# Altium footprint library Connector_JST.PcbLib: 558 footprints (part 14 of 35)
Each footprint in its own frame and in the unit in brackets; x right, y up, seen from the top. Pads: shape width x height; smd on the part's side, far side on the other; paste and mask are expansions set on the pad; w line width, h text height; cw(c..) or ccw(c..) is an arc to the next point about the centre after c.
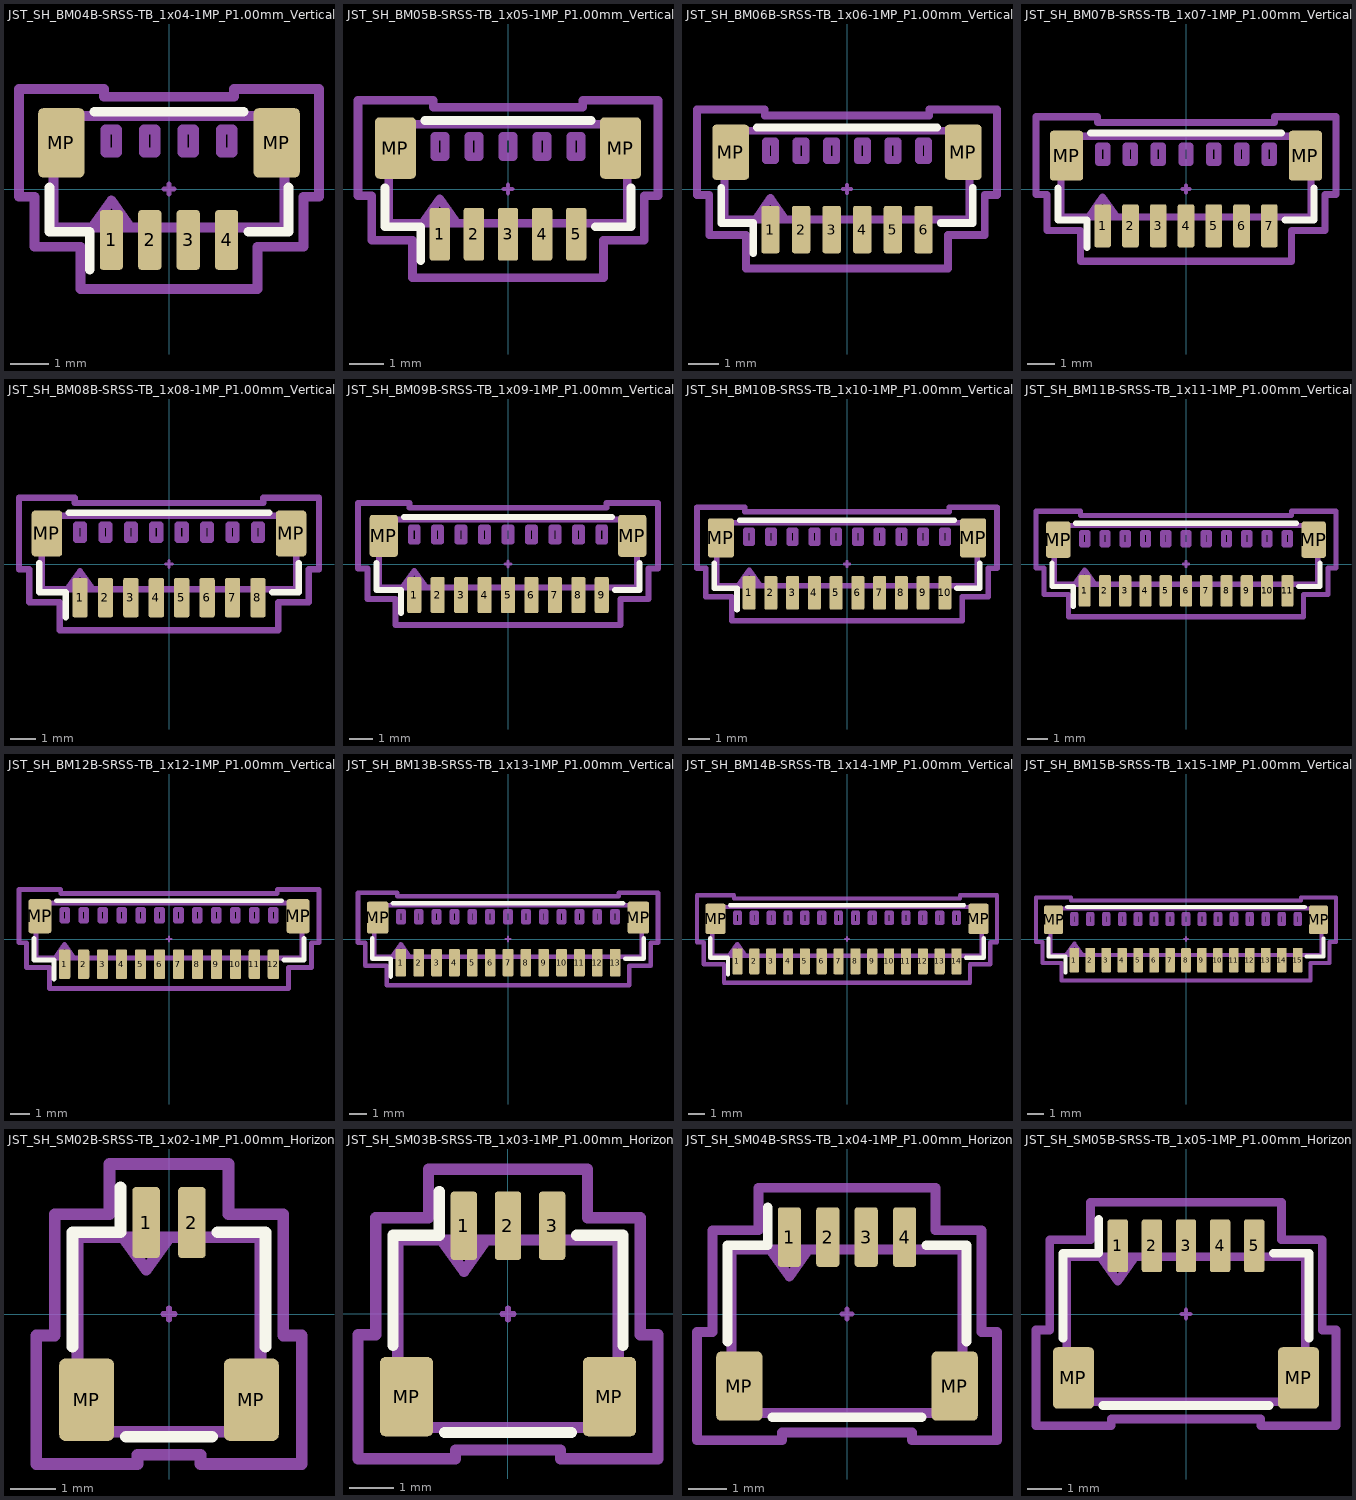
[diagram p13: the footprints below, top view; thin cyan lines are the x and y axes]

## JST_SH_BM04B-SRSS-TB_1x04-1MP_P1.00mm_Vertical [mm] "JST_SH_BM04B-SRSS-TB_1x04-1MP_P1.00mm_Vertical"
pads (6):
  rrect25% 0.6x1.55 smd: 1(-1.5,-1.325) 2(-0.5,-1.325) 3(0.5,-1.325) 4(1.5,-1.325)
  rrect21% 1.2x1.8 smd: MP(-2.8,1.2) MP(2.8,1.2)
F.SilkS:
  lines w0.254: -3.11,0.04 -3.11,-1.11 -2.06,-1.11 -2.06,-2.1 ; -1.94,2.01 1.94,2.01 ; 2.06,-1.11 3.11,-1.11 3.11,0.04
Top Component Center:
  lines w0.127: -0.127,0 0.127,0 ; 0,-0.127 0,0.127
Top Assembly:
  lines w0.254: -2,-1 -1.5,-0.293 -1,-1 ; -3,-1 -3,1.9 3,1.9 3,-1 -3,-1 ; -1.65,0.95 -1.65,1.55 -1.35,1.55 -1.35,0.95 -1.65,0.95 ; -0.65,0.95 -0.65,1.55 -0.35,1.55 -0.35,0.95 -0.65,0.95 ; 0.35,0.95 0.35,1.55 0.65,1.55 0.65,0.95 0.35,0.95 ; 1.35,0.95 1.35,1.55 1.65,1.55 1.65,0.95 1.35,0.95
Top Courtyard:
  lines w0.254: -3.9,-0.2 -3.9,2.6 -1.69,2.6 -1.69,2.4 1.69,2.4 1.69,2.6 3.9,2.6 3.9,-0.2 3.5,-0.2 3.5,-1.5 2.3,-1.5 2.3,-2.6 -2.3,-2.6 -2.3,-1.5 -3.5,-1.5 -3.5,-0.2 -3.9,-0.2
Top Designator:
  text ".Designator" at -3.43,-0.344 h1.52

## JST_SH_BM05B-SRSS-TB_1x05-1MP_P1.00mm_Vertical [mm] "JST_SH_BM05B-SRSS-TB_1x05-1MP_P1.00mm_Vertical"
pads (7):
  rrect25% 0.6x1.55 smd: 1(-2,-1.325) 2(-1,-1.325) 3(0,-1.325) 4(1,-1.325) 5(2,-1.325)
  rrect21% 1.2x1.8 smd: MP(-3.3,1.2) MP(3.3,1.2)
F.SilkS:
  lines w0.254: -3.61,0.04 -3.61,-1.11 -2.56,-1.11 -2.56,-2.1 ; -2.44,2.01 2.44,2.01 ; 2.56,-1.11 3.61,-1.11 3.61,0.04
Top Component Center:
  lines w0.127: -0.127,0 0.127,0 ; 0,-0.127 0,0.127
Top Assembly:
  lines w0.254: -2.5,-1 -2,-0.293 -1.5,-1 ; -3.5,-1 -3.5,1.9 3.5,1.9 3.5,-1 -3.5,-1 ; -2.15,0.95 -2.15,1.55 -1.85,1.55 -1.85,0.95 -2.15,0.95 ; -1.15,0.95 -1.15,1.55 -0.85,1.55 -0.85,0.95 -1.15,0.95 ; -0.15,0.95 -0.15,1.55 0.15,1.55 0.15,0.95 -0.15,0.95 ; 0.85,0.95 0.85,1.55 1.15,1.55 1.15,0.95 0.85,0.95 ; 1.85,0.95 1.85,1.55 2.15,1.55 2.15,0.95 1.85,0.95
Top Courtyard:
  lines w0.254: -4.4,-0.2 -4.4,2.6 -2.19,2.6 -2.19,2.4 2.19,2.4 2.19,2.6 4.4,2.6 4.4,-0.2 4,-0.2 4,-1.5 2.8,-1.5 2.8,-2.6 -2.8,-2.6 -2.8,-1.5 -4,-1.5 -4,-0.2 -4.4,-0.2
Top Designator:
  text ".Designator" at -3.43,-0.344 h1.52

## JST_SH_BM06B-SRSS-TB_1x06-1MP_P1.00mm_Vertical [mm] "JST_SH_BM06B-SRSS-TB_1x06-1MP_P1.00mm_Vertical"
pads (8):
  rrect25% 0.6x1.55 smd: 1(-2.5,-1.325) 2(-1.5,-1.325) 3(-0.5,-1.325) 4(0.5,-1.325) 5(1.5,-1.325) 6(2.5,-1.325)
  rrect21% 1.2x1.8 smd: MP(-3.8,1.2) MP(3.8,1.2)
F.SilkS:
  lines w0.254: -4.11,0.04 -4.11,-1.11 -3.06,-1.11 -3.06,-2.1 ; -2.94,2.01 2.94,2.01 ; 3.06,-1.11 4.11,-1.11 4.11,0.04
Top Component Center:
  lines w0.127: -0.127,0 0.127,0 ; 0,-0.127 0,0.127
Top Assembly:
  lines w0.254: -3,-1 -2.5,-0.293 -2,-1 ; -4,-1 4,-1 4,1.9 -4,1.9 -4,-1 ; -2.65,0.95 -2.35,0.95 -2.35,1.55 -2.65,1.55 -2.65,0.95 ; -1.65,0.95 -1.35,0.95 -1.35,1.55 -1.65,1.55 -1.65,0.95 ; -0.65,0.95 -0.35,0.95 -0.35,1.55 -0.65,1.55 -0.65,0.95 ; 0.35,0.95 0.65,0.95 0.65,1.55 0.35,1.55 0.35,0.95 ; 1.35,0.95 1.65,0.95 1.65,1.55 1.35,1.55 1.35,0.95 ; 2.35,0.95 2.65,0.95 2.65,1.55 2.35,1.55 2.35,0.95
Top Courtyard:
  lines w0.254: -4.9,-0.2 -4.5,-0.2 -4.5,-1.5 -3.3,-1.5 -3.3,-2.6 3.3,-2.6 3.3,-1.5 4.5,-1.5 4.5,-0.2 4.9,-0.2 4.9,2.6 2.69,2.6 2.69,2.4 -2.69,2.4 -2.69,2.6 -4.9,2.6 -4.9,-0.2
Top Designator:
  text ".Designator" at -3.43,-0.344 h1.52

## JST_SH_BM07B-SRSS-TB_1x07-1MP_P1.00mm_Vertical [mm] "JST_SH_BM07B-SRSS-TB_1x07-1MP_P1.00mm_Vertical"
pads (9):
  rrect25% 0.6x1.55 smd: 1(-3,-1.325) 2(-2,-1.325) 3(-1,-1.325) 4(0,-1.325) 5(1,-1.325) 6(2,-1.325) 7(3,-1.325)
  rrect21% 1.2x1.8 smd: MP(-4.3,1.2) MP(4.3,1.2)
F.SilkS:
  lines w0.254: -4.61,0.04 -4.61,-1.11 -3.56,-1.11 -3.56,-2.1 ; -3.44,2.01 3.44,2.01 ; 3.56,-1.11 4.61,-1.11 4.61,0.04
Top Component Center:
  lines w0.127: -0.127,0 0.127,0 ; 0,-0.127 0,0.127
Top Assembly:
  lines w0.254: -3.5,-1 -3,-0.293 -2.5,-1 ; -4.5,-1 -4.5,1.9 4.5,1.9 4.5,-1 -4.5,-1 ; -3.15,0.95 -3.15,1.55 -2.85,1.55 -2.85,0.95 -3.15,0.95 ; -2.15,0.95 -2.15,1.55 -1.85,1.55 -1.85,0.95 -2.15,0.95 ; -1.15,0.95 -1.15,1.55 -0.85,1.55 -0.85,0.95 -1.15,0.95 ; -0.15,0.95 -0.15,1.55 0.15,1.55 0.15,0.95 -0.15,0.95 ; 0.85,0.95 0.85,1.55 1.15,1.55 1.15,0.95 0.85,0.95 ; 1.85,0.95 1.85,1.55 2.15,1.55 2.15,0.95 1.85,0.95 ; 2.85,0.95 2.85,1.55 3.15,1.55 3.15,0.95 2.85,0.95
Top Courtyard:
  lines w0.254: -5.4,-0.2 -5.4,2.6 -3.19,2.6 -3.19,2.4 3.19,2.4 3.19,2.6 5.4,2.6 5.4,-0.2 5,-0.2 5,-1.5 3.8,-1.5 3.8,-2.6 -3.8,-2.6 -3.8,-1.5 -5,-1.5 -5,-0.2 -5.4,-0.2
Top Designator:
  text ".Designator" at -3.43,-0.344 h1.52

## JST_SH_BM08B-SRSS-TB_1x08-1MP_P1.00mm_Vertical [mm] "JST_SH_BM08B-SRSS-TB_1x08-1MP_P1.00mm_Vertical"
pads (10):
  rrect25% 0.6x1.55 smd: 1(-3.5,-1.325) 2(-2.5,-1.325) 3(-1.5,-1.325) 4(-0.5,-1.325) 5(0.5,-1.325) 6(1.5,-1.325) 7(2.5,-1.325) 8(3.5,-1.325)
  rrect21% 1.2x1.8 smd: MP(-4.8,1.2) MP(4.8,1.2)
F.SilkS:
  lines w0.254: -5.11,0.04 -5.11,-1.11 -4.06,-1.11 -4.06,-2.1 ; -3.94,2.01 3.94,2.01 ; 4.06,-1.11 5.11,-1.11 5.11,0.04
Top Component Center:
  lines w0.127: -0.127,0 0.127,0 ; 0,-0.127 0,0.127
Top Assembly:
  lines w0.254: -4,-1 -3.5,-0.293 -3,-1 ; -5,-1 5,-1 5,1.9 -5,1.9 -5,-1 ; -3.65,0.95 -3.35,0.95 -3.35,1.55 -3.65,1.55 -3.65,0.95 ; -2.65,0.95 -2.35,0.95 -2.35,1.55 -2.65,1.55 -2.65,0.95 ; -1.65,0.95 -1.35,0.95 -1.35,1.55 -1.65,1.55 -1.65,0.95 ; -0.65,0.95 -0.35,0.95 -0.35,1.55 -0.65,1.55 -0.65,0.95 ; 0.35,0.95 0.65,0.95 0.65,1.55 0.35,1.55 0.35,0.95 ; 1.35,0.95 1.65,0.95 1.65,1.55 1.35,1.55 1.35,0.95 ; 2.35,0.95 2.65,0.95 2.65,1.55 2.35,1.55 2.35,0.95 ; 3.35,0.95 3.65,0.95 3.65,1.55 3.35,1.55 3.35,0.95
Top Courtyard:
  lines w0.254: -5.9,-0.2 -5.5,-0.2 -5.5,-1.5 -4.3,-1.5 -4.3,-2.6 4.3,-2.6 4.3,-1.5 5.5,-1.5 5.5,-0.2 5.9,-0.2 5.9,2.6 3.7,2.6 3.7,2.4 -3.7,2.4 -3.7,2.6 -5.9,2.6 -5.9,-0.2
Top Designator:
  text ".Designator" at -3.43,-0.344 h1.52

## JST_SH_BM09B-SRSS-TB_1x09-1MP_P1.00mm_Vertical [mm] "JST_SH_BM09B-SRSS-TB_1x09-1MP_P1.00mm_Vertical"
pads (11):
  rrect25% 0.6x1.55 smd: 1(-4,-1.325) 2(-3,-1.325) 3(-2,-1.325) 4(-1,-1.325) 5(0,-1.325) 6(1,-1.325) 7(2,-1.325) 8(3,-1.325) 9(4,-1.325)
  rrect21% 1.2x1.8 smd: MP(-5.3,1.2) MP(5.3,1.2)
F.SilkS:
  lines w0.254: -5.61,0.04 -5.61,-1.11 -4.56,-1.11 -4.56,-2.1 ; -4.44,2.01 4.44,2.01 ; 4.56,-1.11 5.61,-1.11 5.61,0.04
Top Component Center:
  lines w0.127: -0.127,0 0.127,0 ; 0,-0.127 0,0.127
Top Assembly:
  lines w0.254: -4.5,-1 -4,-0.293 -3.5,-1 ; -5.5,-1 -5.5,1.9 5.5,1.9 5.5,-1 -5.5,-1 ; -4.15,0.95 -4.15,1.55 -3.85,1.55 -3.85,0.95 -4.15,0.95 ; -3.15,0.95 -3.15,1.55 -2.85,1.55 -2.85,0.95 -3.15,0.95 ; -2.15,0.95 -2.15,1.55 -1.85,1.55 -1.85,0.95 -2.15,0.95 ; -1.15,0.95 -1.15,1.55 -0.85,1.55 -0.85,0.95 -1.15,0.95 ; -0.15,0.95 -0.15,1.55 0.15,1.55 0.15,0.95 -0.15,0.95 ; 0.85,0.95 0.85,1.55 1.15,1.55 1.15,0.95 0.85,0.95 ; 1.85,0.95 1.85,1.55 2.15,1.55 2.15,0.95 1.85,0.95 ; 2.85,0.95 2.85,1.55 3.15,1.55 3.15,0.95 2.85,0.95 ; 3.85,0.95 3.85,1.55 4.15,1.55 4.15,0.95 3.85,0.95
Top Courtyard:
  lines w0.254: -6.4,-0.2 -6.4,2.6 -4.2,2.6 -4.2,2.4 4.2,2.4 4.2,2.6 6.4,2.6 6.4,-0.2 6,-0.2 6,-1.5 4.8,-1.5 4.8,-2.6 -4.8,-2.6 -4.8,-1.5 -6,-1.5 -6,-0.2 -6.4,-0.2
Top Designator:
  text ".Designator" at -3.43,-0.344 h1.52

## JST_SH_BM10B-SRSS-TB_1x10-1MP_P1.00mm_Vertical [mm] "JST_SH_BM10B-SRSS-TB_1x10-1MP_P1.00mm_Vertical"
pads (12):
  rrect25% 0.6x1.55 smd: 1(-4.5,-1.325) 2(-3.5,-1.325) 3(-2.5,-1.325) 4(-1.5,-1.325) 5(-0.5,-1.325) 6(0.5,-1.325) 7(1.5,-1.325) 8(2.5,-1.325) 9(3.5,-1.325) 10(4.5,-1.325)
  rrect21% 1.2x1.8 smd: MP(-5.8,1.2) MP(5.8,1.2)
F.SilkS:
  lines w0.254: -6.11,0.04 -6.11,-1.11 -5.06,-1.11 -5.06,-2.1 ; -4.94,2.01 4.94,2.01 ; 5.06,-1.11 6.11,-1.11 6.11,0.04
Top Component Center:
  lines w0.127: -0.127,0 0.127,0 ; 0,-0.127 0,0.127
Top Assembly:
  lines w0.254: -5,-1 -4.5,-0.293 -4,-1 ; -6,-1 -6,1.9 6,1.9 6,-1 -6,-1 ; -4.65,0.95 -4.65,1.55 -4.35,1.55 -4.35,0.95 -4.65,0.95 ; -3.65,0.95 -3.65,1.55 -3.35,1.55 -3.35,0.95 -3.65,0.95 ; -2.65,0.95 -2.65,1.55 -2.35,1.55 -2.35,0.95 -2.65,0.95 ; -1.65,0.95 -1.65,1.55 -1.35,1.55 -1.35,0.95 -1.65,0.95 ; -0.65,0.95 -0.65,1.55 -0.35,1.55 -0.35,0.95 -0.65,0.95 ; 0.35,0.95 0.35,1.55 0.65,1.55 0.65,0.95 0.35,0.95 ; 1.35,0.95 1.35,1.55 1.65,1.55 1.65,0.95 1.35,0.95 ; 2.35,0.95 2.35,1.55 2.65,1.55 2.65,0.95 2.35,0.95 ; 3.35,0.95 3.35,1.55 3.65,1.55 3.65,0.95 3.35,0.95 ; 4.35,0.95 4.35,1.55 4.65,1.55 4.65,0.95 4.35,0.95
Top Courtyard:
  lines w0.254: -6.9,-0.2 -6.9,2.6 -4.7,2.6 -4.7,2.4 4.7,2.4 4.7,2.6 6.9,2.6 6.9,-0.2 6.5,-0.2 6.5,-1.5 5.3,-1.5 5.3,-2.6 -5.3,-2.6 -5.3,-1.5 -6.5,-1.5 -6.5,-0.2 -6.9,-0.2
Top Designator:
  text ".Designator" at -3.43,-0.344 h1.52

## JST_SH_BM11B-SRSS-TB_1x11-1MP_P1.00mm_Vertical [mm] "JST_SH_BM11B-SRSS-TB_1x11-1MP_P1.00mm_Vertical"
pads (13):
  rrect25% 0.6x1.55 smd: 1(-5,-1.325) 2(-4,-1.325) 3(-3,-1.325) 4(-2,-1.325) 5(-1,-1.325) 6(0,-1.325) 7(1,-1.325) 8(2,-1.325) 9(3,-1.325) 10(4,-1.325) 11(5,-1.325)
  rrect21% 1.2x1.8 smd: MP(-6.3,1.2) MP(6.3,1.2)
F.SilkS:
  lines w0.254: -6.61,0.04 -6.61,-1.11 -5.56,-1.11 -5.56,-2.1 ; -5.44,2.01 5.44,2.01 ; 5.56,-1.11 6.61,-1.11 6.61,0.04
Top Component Center:
  lines w0.127: -0.127,0 0.127,0 ; 0,-0.127 0,0.127
Top Assembly:
  lines w0.254: -5.5,-1 -5,-0.293 -4.5,-1 ; -6.5,-1 6.5,-1 6.5,1.9 -6.5,1.9 -6.5,-1 ; -5.15,0.95 -4.85,0.95 -4.85,1.55 -5.15,1.55 -5.15,0.95 ; -4.15,0.95 -3.85,0.95 -3.85,1.55 -4.15,1.55 -4.15,0.95 ; -3.15,0.95 -2.85,0.95 -2.85,1.55 -3.15,1.55 -3.15,0.95 ; -2.15,0.95 -1.85,0.95 -1.85,1.55 -2.15,1.55 -2.15,0.95 ; -1.15,0.95 -0.85,0.95 -0.85,1.55 -1.15,1.55 -1.15,0.95 ; -0.15,0.95 0.15,0.95 0.15,1.55 -0.15,1.55 -0.15,0.95 ; 0.85,0.95 1.15,0.95 1.15,1.55 0.85,1.55 0.85,0.95 ; 1.85,0.95 2.15,0.95 2.15,1.55 1.85,1.55 1.85,0.95 ; 2.85,0.95 3.15,0.95 3.15,1.55 2.85,1.55 2.85,0.95 ; 3.85,0.95 4.15,0.95 4.15,1.55 3.85,1.55 3.85,0.95 ; 4.85,0.95 5.15,0.95 5.15,1.55 4.85,1.55 4.85,0.95
Top Courtyard:
  lines w0.254: -7.4,-0.2 -7,-0.2 -7,-1.5 -5.8,-1.5 -5.8,-2.6 5.8,-2.6 5.8,-1.5 7,-1.5 7,-0.2 7.4,-0.2 7.4,2.6 5.2,2.6 5.2,2.4 -5.2,2.4 -5.2,2.6 -7.4,2.6 -7.4,-0.2
Top Designator:
  text ".Designator" at -3.43,-0.344 h1.52

## JST_SH_BM12B-SRSS-TB_1x12-1MP_P1.00mm_Vertical [mm] "JST_SH_BM12B-SRSS-TB_1x12-1MP_P1.00mm_Vertical"
pads (14):
  rrect25% 0.6x1.55 smd: 1(-5.5,-1.325) 2(-4.5,-1.325) 3(-3.5,-1.325) 4(-2.5,-1.325) 5(-1.5,-1.325) 6(-0.5,-1.325) 7(0.5,-1.325) 8(1.5,-1.325) 9(2.5,-1.325) 10(3.5,-1.325) 11(4.5,-1.325) 12(5.5,-1.325)
  rrect21% 1.2x1.8 smd: MP(-6.8,1.2) MP(6.8,1.2)
F.SilkS:
  lines w0.254: -7.11,0.04 -7.11,-1.11 -6.06,-1.11 -6.06,-2.1 ; -5.94,2.01 5.94,2.01 ; 6.06,-1.11 7.11,-1.11 7.11,0.04
Top Component Center:
  lines w0.127: -0.127,0 0.127,0 ; 0,-0.127 0,0.127
Top Assembly:
  lines w0.254: -6,-1 -5.5,-0.293 -5,-1 ; -7,-1 -7,1.9 7,1.9 7,-1 -7,-1 ; -5.65,0.95 -5.65,1.55 -5.35,1.55 -5.35,0.95 -5.65,0.95 ; -4.65,0.95 -4.65,1.55 -4.35,1.55 -4.35,0.95 -4.65,0.95 ; -3.65,0.95 -3.65,1.55 -3.35,1.55 -3.35,0.95 -3.65,0.95 ; -2.65,0.95 -2.65,1.55 -2.35,1.55 -2.35,0.95 -2.65,0.95 ; -1.65,0.95 -1.65,1.55 -1.35,1.55 -1.35,0.95 -1.65,0.95 ; -0.65,0.95 -0.65,1.55 -0.35,1.55 -0.35,0.95 -0.65,0.95 ; 0.35,0.95 0.35,1.55 0.65,1.55 0.65,0.95 0.35,0.95 ; 1.35,0.95 1.35,1.55 1.65,1.55 1.65,0.95 1.35,0.95 ; 2.35,0.95 2.35,1.55 2.65,1.55 2.65,0.95 2.35,0.95 ; 3.35,0.95 3.35,1.55 3.65,1.55 3.65,0.95 3.35,0.95 ; 4.35,0.95 4.35,1.55 4.65,1.55 4.65,0.95 4.35,0.95 ; 5.35,0.95 5.35,1.55 5.65,1.55 5.65,0.95 5.35,0.95
Top Courtyard:
  lines w0.254: -7.9,-0.2 -7.9,2.6 -5.7,2.6 -5.7,2.4 5.7,2.4 5.7,2.6 7.9,2.6 7.9,-0.2 7.5,-0.2 7.5,-1.5 6.3,-1.5 6.3,-2.6 -6.3,-2.6 -6.3,-1.5 -7.5,-1.5 -7.5,-0.2 -7.9,-0.2
Top Designator:
  text ".Designator" at -3.43,-0.344 h1.52

## JST_SH_BM13B-SRSS-TB_1x13-1MP_P1.00mm_Vertical [mm] "JST_SH_BM13B-SRSS-TB_1x13-1MP_P1.00mm_Vertical"
pads (15):
  rrect25% 0.6x1.55 smd: 1(-6,-1.325) 2(-5,-1.325) 3(-4,-1.325) 4(-3,-1.325) 5(-2,-1.325) 6(-1,-1.325) 7(0,-1.325) 8(1,-1.325) 9(2,-1.325) 10(3,-1.325) 11(4,-1.325) 12(5,-1.325) 13(6,-1.325)
  rrect21% 1.2x1.8 smd: MP(-7.3,1.2) MP(7.3,1.2)
F.SilkS:
  lines w0.254: -7.61,0.04 -7.61,-1.11 -6.56,-1.11 -6.56,-2.1 ; -6.44,2.01 6.44,2.01 ; 6.56,-1.11 7.61,-1.11 7.61,0.04
Top Component Center:
  lines w0.127: -0.127,0 0.127,0 ; 0,-0.127 0,0.127
Top Assembly:
  lines w0.254: -6.5,-1 -6,-0.293 -5.5,-1 ; -7.5,-1 7.5,-1 7.5,1.9 -7.5,1.9 -7.5,-1 ; -6.15,0.95 -5.85,0.95 -5.85,1.55 -6.15,1.55 -6.15,0.95 ; -5.15,0.95 -4.85,0.95 -4.85,1.55 -5.15,1.55 -5.15,0.95 ; -4.15,0.95 -3.85,0.95 -3.85,1.55 -4.15,1.55 -4.15,0.95 ; -3.15,0.95 -2.85,0.95 -2.85,1.55 -3.15,1.55 -3.15,0.95 ; -2.15,0.95 -1.85,0.95 -1.85,1.55 -2.15,1.55 -2.15,0.95 ; -1.15,0.95 -0.85,0.95 -0.85,1.55 -1.15,1.55 -1.15,0.95 ; -0.15,0.95 0.15,0.95 0.15,1.55 -0.15,1.55 -0.15,0.95 ; 0.85,0.95 1.15,0.95 1.15,1.55 0.85,1.55 0.85,0.95 ; 1.85,0.95 2.15,0.95 2.15,1.55 1.85,1.55 1.85,0.95 ; 2.85,0.95 3.15,0.95 3.15,1.55 2.85,1.55 2.85,0.95 ; 3.85,0.95 4.15,0.95 4.15,1.55 3.85,1.55 3.85,0.95 ; 4.85,0.95 5.15,0.95 5.15,1.55 4.85,1.55 4.85,0.95 ; 5.85,0.95 6.15,0.95 6.15,1.55 5.85,1.55 5.85,0.95
Top Courtyard:
  lines w0.254: -8.4,-0.2 -8,-0.2 -8,-1.5 -6.8,-1.5 -6.8,-2.6 6.8,-2.6 6.8,-1.5 8,-1.5 8,-0.2 8.4,-0.2 8.4,2.6 6.2,2.6 6.2,2.4 -6.2,2.4 -6.2,2.6 -8.4,2.6 -8.4,-0.2
Top Designator:
  text ".Designator" at -3.43,-0.344 h1.52

## JST_SH_BM14B-SRSS-TB_1x14-1MP_P1.00mm_Vertical [mm] "JST_SH_BM14B-SRSS-TB_1x14-1MP_P1.00mm_Vertical"
pads (16):
  rrect25% 0.6x1.55 smd: 1(-6.5,-1.325) 2(-5.5,-1.325) 3(-4.5,-1.325) 4(-3.5,-1.325) 5(-2.5,-1.325) 6(-1.5,-1.325) 7(-0.5,-1.325) 8(0.5,-1.325) 9(1.5,-1.325) 10(2.5,-1.325) 11(3.5,-1.325) 12(4.5,-1.325) 13(5.5,-1.325) 14(6.5,-1.325)
  rrect21% 1.2x1.8 smd: MP(-7.8,1.2) MP(7.8,1.2)
F.SilkS:
  lines w0.254: -8.11,0.04 -8.11,-1.11 -7.06,-1.11 -7.06,-2.1 ; -6.94,2.01 6.94,2.01 ; 7.06,-1.11 8.11,-1.11 8.11,0.04
Top Component Center:
  lines w0.127: -0.127,0 0.127,0 ; 0,-0.127 0,0.127
Top Assembly:
  lines w0.254: -7,-1 -6.5,-0.293 -6,-1 ; -8,-1 -8,1.9 8,1.9 8,-1 -8,-1 ; -6.65,0.95 -6.65,1.55 -6.35,1.55 -6.35,0.95 -6.65,0.95 ; -5.65,0.95 -5.65,1.55 -5.35,1.55 -5.35,0.95 -5.65,0.95 ; -4.65,0.95 -4.65,1.55 -4.35,1.55 -4.35,0.95 -4.65,0.95 ; -3.65,0.95 -3.65,1.55 -3.35,1.55 -3.35,0.95 -3.65,0.95 ; -2.65,0.95 -2.65,1.55 -2.35,1.55 -2.35,0.95 -2.65,0.95 ; -1.65,0.95 -1.65,1.55 -1.35,1.55 -1.35,0.95 -1.65,0.95 ; -0.65,0.95 -0.65,1.55 -0.35,1.55 -0.35,0.95 -0.65,0.95 ; 0.35,0.95 0.35,1.55 0.65,1.55 0.65,0.95 0.35,0.95 ; 1.35,0.95 1.35,1.55 1.65,1.55 1.65,0.95 1.35,0.95 ; 2.35,0.95 2.35,1.55 2.65,1.55 2.65,0.95 2.35,0.95 ; 3.35,0.95 3.35,1.55 3.65,1.55 3.65,0.95 3.35,0.95 ; 4.35,0.95 4.35,1.55 4.65,1.55 4.65,0.95 4.35,0.95 ; 5.35,0.95 5.35,1.55 5.65,1.55 5.65,0.95 5.35,0.95 ; 6.35,0.95 6.35,1.55 6.65,1.55 6.65,0.95 6.35,0.95
Top Courtyard:
  lines w0.254: -8.9,-0.2 -8.9,2.6 -6.7,2.6 -6.7,2.4 6.7,2.4 6.7,2.6 8.9,2.6 8.9,-0.2 8.5,-0.2 8.5,-1.5 7.3,-1.5 7.3,-2.6 -7.3,-2.6 -7.3,-1.5 -8.5,-1.5 -8.5,-0.2 -8.9,-0.2
Top Designator:
  text ".Designator" at -3.43,-0.344 h1.52

## JST_SH_BM15B-SRSS-TB_1x15-1MP_P1.00mm_Vertical [mm] "JST_SH_BM15B-SRSS-TB_1x15-1MP_P1.00mm_Vertical"
pads (17):
  rrect25% 0.6x1.55 smd: 1(-7,-1.325) 2(-6,-1.325) 3(-5,-1.325) 4(-4,-1.325) 5(-3,-1.325) 6(-2,-1.325) 7(-1,-1.325) 8(0,-1.325) 9(1,-1.325) 10(2,-1.325) 11(3,-1.325) 12(4,-1.325) 13(5,-1.325) 14(6,-1.325) 15(7,-1.325)
  rrect21% 1.2x1.8 smd: MP(-8.3,1.2) MP(8.3,1.2)
F.SilkS:
  lines w0.254: -8.61,0.04 -8.61,-1.11 -7.56,-1.11 -7.56,-2.1 ; -7.44,2.01 7.44,2.01 ; 7.56,-1.11 8.61,-1.11 8.61,0.04
Top Component Center:
  lines w0.127: -0.127,0 0.127,0 ; 0,-0.127 0,0.127
Top Assembly:
  lines w0.254: -7.5,-1 -7,-0.293 -6.5,-1 ; -8.5,-1 -8.5,1.9 8.5,1.9 8.5,-1 -8.5,-1 ; -7.15,0.95 -7.15,1.55 -6.85,1.55 -6.85,0.95 -7.15,0.95 ; -6.15,0.95 -6.15,1.55 -5.85,1.55 -5.85,0.95 -6.15,0.95 ; -5.15,0.95 -5.15,1.55 -4.85,1.55 -4.85,0.95 -5.15,0.95 ; -4.15,0.95 -4.15,1.55 -3.85,1.55 -3.85,0.95 -4.15,0.95 ; -3.15,0.95 -3.15,1.55 -2.85,1.55 -2.85,0.95 -3.15,0.95 ; -2.15,0.95 -2.15,1.55 -1.85,1.55 -1.85,0.95 -2.15,0.95 ; -1.15,0.95 -1.15,1.55 -0.85,1.55 -0.85,0.95 -1.15,0.95 ; -0.15,0.95 -0.15,1.55 0.15,1.55 0.15,0.95 -0.15,0.95 ; 0.85,0.95 0.85,1.55 1.15,1.55 1.15,0.95 0.85,0.95 ; 1.85,0.95 1.85,1.55 2.15,1.55 2.15,0.95 1.85,0.95 ; 2.85,0.95 2.85,1.55 3.15,1.55 3.15,0.95 2.85,0.95 ; 3.85,0.95 3.85,1.55 4.15,1.55 4.15,0.95 3.85,0.95 ; 4.85,0.95 4.85,1.55 5.15,1.55 5.15,0.95 4.85,0.95 ; 5.85,0.95 5.85,1.55 6.15,1.55 6.15,0.95 5.85,0.95 ; 6.85,0.95 6.85,1.55 7.15,1.55 7.15,0.95 6.85,0.95
Top Courtyard:
  lines w0.254: -9.4,-0.2 -9.4,2.6 -7.2,2.6 -7.2,2.4 7.2,2.4 7.2,2.6 9.4,2.6 9.4,-0.2 9,-0.2 9,-1.5 7.8,-1.5 7.8,-2.6 -7.8,-2.6 -7.8,-1.5 -9,-1.5 -9,-0.2 -9.4,-0.2
Top Designator:
  text ".Designator" at -3.43,-0.344 h1.52

## JST_SH_SM02B-SRSS-TB_1x02-1MP_P1.00mm_Horizontal [mm] "JST_SH_SM02B-SRSS-TB_1x02-1MP_P1.00mm_Horizontal"
pads (4):
  rrect25% 0.6x1.55 smd: 1(-0.5,2) 2(0.5,2)
  rrect21% 1.2x1.8 smd: MP(-1.8,-1.875) MP(1.8,-1.875)
F.SilkS:
  lines w0.254: -2.11,-0.715 -2.11,1.785 -1.06,1.785 -1.06,2.775 ; -0.94,-2.685 0.94,-2.685 ; 1.06,1.785 2.11,1.785 2.11,-0.715
Top Component Center:
  lines w0.127: -0.127,0 0.127,0 ; 0,-0.127 0,0.127
Top Assembly:
  lines w0.254: -1,1.675 -0.5,0.968 0,1.675 ; -2,-2.575 2,-2.575 2,1.675 -2,1.675 -2,-2.575
Top Courtyard:
  lines w0.254: -2.9,-3.28 -0.69,-3.28 -0.69,-3.08 0.69,-3.08 0.69,-3.28 2.9,-3.28 2.9,-0.47 2.5,-0.47 2.5,2.18 1.3,2.18 1.3,3.28 -1.3,3.28 -1.3,2.18 -2.5,2.18 -2.5,-0.47 -2.9,-0.47 -2.9,-3.28
Top Designator:
  text ".Designator" at -3.43,-0.344 h1.52

## JST_SH_SM03B-SRSS-TB_1x03-1MP_P1.00mm_Horizontal [mm] "JST_SH_SM03B-SRSS-TB_1x03-1MP_P1.00mm_Horizontal"
pads (5):
  rrect25% 0.6x1.55 smd: 1(-1,2) 2(0,2) 3(1,2)
  rrect21% 1.2x1.8 smd: MP(-2.3,-1.875) MP(2.3,-1.875)
F.SilkS:
  lines w0.254: -2.61,-0.715 -2.61,1.785 -1.56,1.785 -1.56,2.775 ; -1.44,-2.685 1.44,-2.685 ; 1.56,1.785 2.61,1.785 2.61,-0.715
Top Component Center:
  lines w0.127: -0.127,0 0.127,0 ; 0,-0.127 0,0.127
Top Assembly:
  lines w0.254: -1.5,1.675 -1,0.968 -0.5,1.675 ; -2.5,-2.575 2.5,-2.575 2.5,1.675 -2.5,1.675 -2.5,-2.575
Top Courtyard:
  lines w0.254: -3.4,-3.28 -1.19,-3.28 -1.19,-3.08 1.19,-3.08 1.19,-3.28 3.4,-3.28 3.4,-0.47 3,-0.47 3,2.18 1.8,2.18 1.8,3.28 -1.8,3.28 -1.8,2.18 -3,2.18 -3,-0.47 -3.4,-0.47 -3.4,-3.28
Top Designator:
  text ".Designator" at -3.43,-0.344 h1.52

## JST_SH_SM04B-SRSS-TB_1x04-1MP_P1.00mm_Horizontal [mm] "JST_SH_SM04B-SRSS-TB_1x04-1MP_P1.00mm_Horizontal"
pads (6):
  rrect25% 0.6x1.55 smd: 1(-1.5,2) 2(-0.5,2) 3(0.5,2) 4(1.5,2)
  rrect21% 1.2x1.8 smd: MP(-2.8,-1.875) MP(2.8,-1.875)
F.SilkS:
  lines w0.254: -3.11,-0.715 -3.11,1.785 -2.06,1.785 -2.06,2.775 ; -1.94,-2.685 1.94,-2.685 ; 2.06,1.785 3.11,1.785 3.11,-0.715
Top Component Center:
  lines w0.127: -0.127,0 0.127,0 ; 0,-0.127 0,0.127
Top Assembly:
  lines w0.254: -2,1.675 -1.5,0.968 -1,1.675 ; -3,-2.575 3,-2.575 3,1.675 -3,1.675 -3,-2.575
Top Courtyard:
  lines w0.254: -3.9,-3.28 -1.69,-3.28 -1.69,-3.08 1.69,-3.08 1.69,-3.28 3.9,-3.28 3.9,-0.47 3.5,-0.47 3.5,2.18 2.3,2.18 2.3,3.28 -2.3,3.28 -2.3,2.18 -3.5,2.18 -3.5,-0.47 -3.9,-0.47 -3.9,-3.28
Top Designator:
  text ".Designator" at -3.43,-0.344 h1.52

## JST_SH_SM05B-SRSS-TB_1x05-1MP_P1.00mm_Horizontal [mm] "JST_SH_SM05B-SRSS-TB_1x05-1MP_P1.00mm_Horizontal"
pads (7):
  rrect25% 0.6x1.55 smd: 1(-2,2) 2(-1,2) 3(0,2) 4(1,2) 5(2,2)
  rrect21% 1.2x1.8 smd: MP(-3.3,-1.875) MP(3.3,-1.875)
F.SilkS:
  lines w0.254: -3.61,-0.715 -3.61,1.785 -2.56,1.785 -2.56,2.775 ; -2.44,-2.685 2.44,-2.685 ; 2.56,1.785 3.61,1.785 3.61,-0.715
Top Component Center:
  lines w0.127: -0.127,0 0.127,0 ; 0,-0.127 0,0.127
Top Assembly:
  lines w0.254: -2.5,1.675 -2,0.968 -1.5,1.675 ; -3.5,-2.575 3.5,-2.575 3.5,1.675 -3.5,1.675 -3.5,-2.575
Top Courtyard:
  lines w0.254: -4.4,-3.28 -2.19,-3.28 -2.19,-3.08 2.19,-3.08 2.19,-3.28 4.4,-3.28 4.4,-0.47 4,-0.47 4,2.18 2.8,2.18 2.8,3.28 -2.8,3.28 -2.8,2.18 -4,2.18 -4,-0.47 -4.4,-0.47 -4.4,-3.28
Top Designator:
  text ".Designator" at -3.43,-0.344 h1.52